# Altium schematic symbol library Suppressor.SchLib: 1 symbol
Pins are listed as number, name and electrical type; pins without a type are passive.

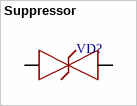
[diagram p0: symbol Suppressor]

## Suppressor
designator VD?
footprint DO201AB
footprint P6KE350CA
footprint SOD-323
footprint DO-214AA
pins: 1 C, 2 A